# Altium schematic symbol library THD Opto Components.SchLib: 22 symbols
Pins are listed as number, name and electrical type; pins without a type are passive.

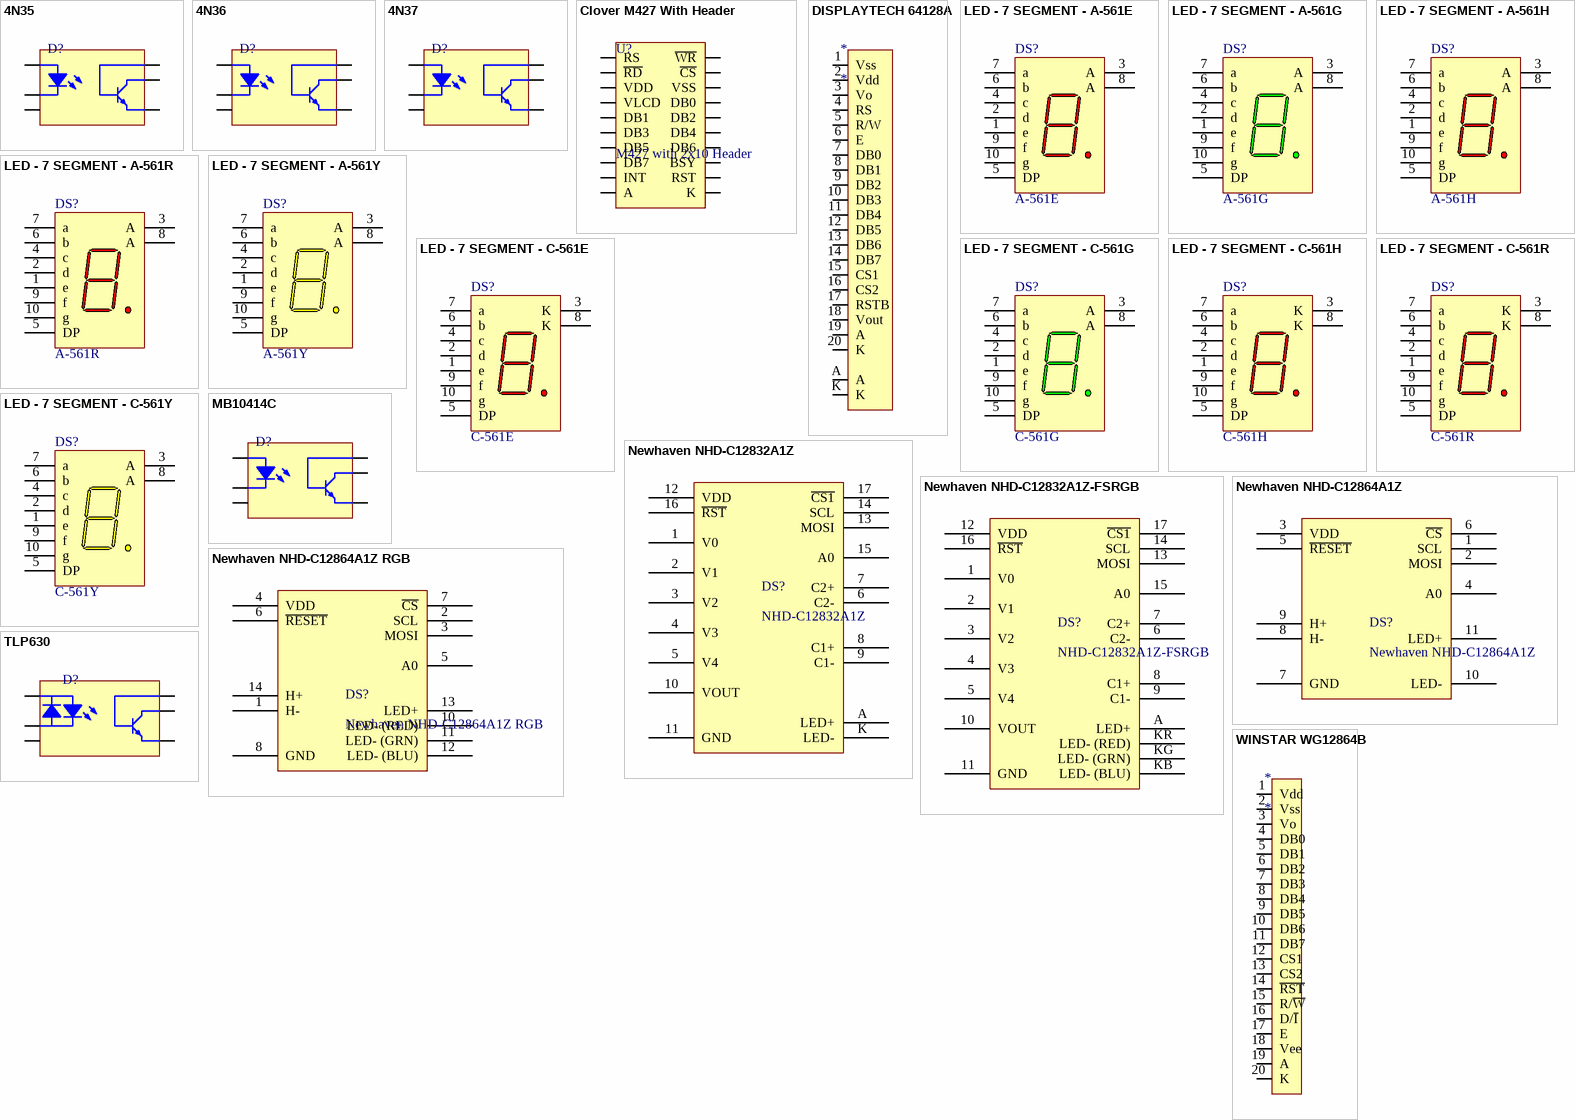
[diagram p0: symbols 4N35 to WINSTAR WG12864B]

## 4N35
designator D?
NPN Transistor Output
footprint DIP6-300 (DIP; 8 Leads; Row Spacing 7.62 mm; Pitch 2.54 mm)
pins: 1, 2, 3, 4, 5, 6 5

## 4N36
designator D?
NPN Transistor Output
footprint DIP6-300 (DIP; 8 Leads; Row Spacing 7.62 mm; Pitch 2.54 mm)
pins: 1, 2, 3, 4, 5, 6 5

## 4N37
designator D?
NPN Transistor Output
footprint DIP6-300 (DIP; 8 Leads; Row Spacing 7.62 mm; Pitch 2.54 mm)
pins: 1, 2, 3, 4, 5, 6 5

## Clover M427 With Header
designator U?, comment M427 with 2x10 Header
M427 with Header (2x10P Molex 1591-1208 or 1591-6207), 160x160 Dots LCD Module, Clover Display Ltd.
footprint CLOVER M427 (M427 with Header (2x10P), 160x160 Dots LCD Module, Clover Display Ltd.)
pins: 1 RS, 2 ~{WR}, 3 ~{RD}, 4 ~{CS}, 5 VDD, 6 VSS, 7 VLCD, 8 DB0, 9 DB1, 10 DB2, 11 DB3, 12 DB4, 13 DB5, 14 DB6, 15 DB7, 16 BSY, 17 INT, 18 RST, 19 A, 20 K

## DISPLAYTECH 64128A
designator *
footprint DISPLAYTECH 68128A - BLUE
footprint DISPLAYTECH 68128A - GREEN
footprint DISPLAYTECH 68128A - RED
footprint DISPLAYTECH 68128A - WHITE
footprint DISPLAYTECH 68128A WITH HEADER - BLUE
footprint DISPLAYTECH 68128A WITH HEADER - GREEN
footprint DISPLAYTECH 68128A WITH HEADER - RED
footprint DISPLAYTECH 68128A WITH HEADER - WHITE
pins: 1 Vss, 2 Vdd, 3 Vo, 4 RS, 5 R/W, 6 E, 7 DB0, 8 DB1, 9 DB2, 10 DB3, 11 DB4, 12 DB5, 13 DB6, 14 DB7, 15 CS1, 16 CS2, 17 RSTB, 18 Vout, 19 A, 20 K, A, K

## LED - 7 SEGMENT - A-561E
designator DS?, comment A-561E
14.22 mm RED, CA, Low Current High efficient 7-Segment Display; Para Ligth; LuminousIntensity: 200 ucd (Minimum).; LED_Colour: High Efficiency Red (HER); Note: Pins 3 and 8 are redundant Anodes.; Published: 26-May-2004; LatestRevisionDate: 11-Oct-2004; LatestRevisionNote: Display outline superimposed on PCB Footprint.; DatasheetDocument: 11-Mar-2003; PackageDocument: 24-Sep-2002; PackageReference: H-10; Publisher: Altium Limited; ComponentLink1Description: Manufacturer Link; ComponentLink1URL: http://www.agilent.com/; ComponentLink2Description: Datasheet; ComponentLink2URL: http://cp.literature.agilent.com/litweb/pdf/5989-2824EN.pdf
footprint H-10 RED 7SEGMENT (LED, 7-Segment Display, 14.22 mm, RHD; 10 Leads; Row Space 15.24 mm; Pitch 2.54 mm)
pins: 1 e "Cathode", 2 d "Cathode", 3 A "Anode", 4 c "Cathode", 5 DP "Cathode", 6 b "Cathode", 7 a "Cathode", 8 A "Anode", 9 f "Cathode", 10 g "Cathode"

## LED - 7 SEGMENT - A-561G
designator DS?, comment A-561G
14.22 mm GREEN, CA, Low Current High efficient 7-Segment Display; Para Ligth; LuminousIntensity: 200 ucd (Minimum).; LED_Colour: High Efficiency Red (HER); Note: Pins 3 and 8 are redundant Anodes.; Published: 26-May-2004; LatestRevisionDate: 11-Oct-2004; LatestRevisionNote: Display outline superimposed on PCB Footprint.; DatasheetDocument: 11-Mar-2003; PackageDocument: 24-Sep-2002; PackageReference: H-10; Publisher: Altium Limited; ComponentLink1Description: Manufacturer Link; ComponentLink1URL: http://www.agilent.com/; ComponentLink2Description: Datasheet; ComponentLink2URL: http://cp.literature.agilent.com/litweb/pdf/5989-2824EN.pdf
footprint H-10 GREEN 7SEGMENT (LED, 7-Segment Display, 14.22 mm, RHD; 10 Leads; Row Space 15.24 mm; Pitch 2.54 mm)
pins: 1 e "Cathode", 2 d "Cathode", 3 A "Anode", 4 c "Cathode", 5 DP "Cathode", 6 b "Cathode", 7 a "Cathode", 8 A "Anode", 9 f "Cathode", 10 g "Cathode"

## LED - 7 SEGMENT - A-561H
designator DS?, comment A-561H
14.22 mm BRIGHT RED, CA, Low Current 7-Segment Display; Para Ligth; LuminousIntensity: 200 ucd (Minimum).; LED_Colour: High Efficiency Red (HER); Note: Pins 3 and 8 are redundant Anodes.; Published: 26-May-2004; LatestRevisionDate: 11-Oct-2004; LatestRevisionNote: Display outline superimposed on PCB Footprint.; DatasheetDocument: 11-Mar-2003; PackageDocument: 24-Sep-2002; PackageReference: H-10; Publisher: Altium Limited; ComponentLink1Description: Manufacturer Link; ComponentLink1URL: http://www.agilent.com/; ComponentLink2Description: Datasheet; ComponentLink2URL: http://cp.literature.agilent.com/litweb/pdf/5989-2824EN.pdf
footprint H-10 RED 7SEGMENT (LED, 7-Segment Display, 14.22 mm, RHD; 10 Leads; Row Space 15.24 mm; Pitch 2.54 mm)
pins: 1 e "Cathode", 2 d "Cathode", 3 A "Anode", 4 c "Cathode", 5 DP "Cathode", 6 b "Cathode", 7 a "Cathode", 8 A "Anode", 9 f "Cathode", 10 g "Cathode"

## LED - 7 SEGMENT - A-561R
designator DS?, comment A-561R
14.22 mm RED, CA, Low Current 7-Segment Display; Para Ligth; LuminousIntensity: 200 ucd (Minimum).; LED_Colour: High Efficiency Red (HER); Note: Pins 3 and 8 are redundant Anodes.; Published: 26-May-2004; LatestRevisionDate: 11-Oct-2004; LatestRevisionNote: Display outline superimposed on PCB Footprint.; DatasheetDocument: 11-Mar-2003; PackageDocument: 24-Sep-2002; PackageReference: H-10; Publisher: Altium Limited; ComponentLink1Description: Manufacturer Link; ComponentLink1URL: http://www.agilent.com/; ComponentLink2Description: Datasheet; ComponentLink2URL: http://cp.literature.agilent.com/litweb/pdf/5989-2824EN.pdf
footprint H-10 RED 7SEGMENT (LED, 7-Segment Display, 14.22 mm, RHD; 10 Leads; Row Space 15.24 mm; Pitch 2.54 mm)
pins: 1 e "Cathode", 2 d "Cathode", 3 A "Anode", 4 c "Cathode", 5 DP "Cathode", 6 b "Cathode", 7 a "Cathode", 8 A "Anode", 9 f "Cathode", 10 g "Cathode"

## LED - 7 SEGMENT - A-561Y
designator DS?, comment A-561Y
14.22 mm YELLOW, CA, Low Current High efficient 7-Segment Display; Para Ligth; LuminousIntensity: 200 ucd (Minimum).; LED_Colour: High Efficiency Red (HER); Note: Pins 3 and 8 are redundant Anodes.; Published: 26-May-2004; LatestRevisionDate: 11-Oct-2004; LatestRevisionNote: Display outline superimposed on PCB Footprint.; DatasheetDocument: 11-Mar-2003; PackageDocument: 24-Sep-2002; PackageReference: H-10; Publisher: Altium Limited; ComponentLink1Description: Manufacturer Link; ComponentLink1URL: http://www.agilent.com/; ComponentLink2Description: Datasheet; ComponentLink2URL: http://cp.literature.agilent.com/litweb/pdf/5989-2824EN.pdf
footprint H-10 YELLOW 7SEGMENT (LED, 7-Segment Display, 14.22 mm, RHD; 10 Leads; Row Space 15.24 mm; Pitch 2.54 mm)
pins: 1 e "Cathode", 2 d "Cathode", 3 A "Anode", 4 c "Cathode", 5 DP "Cathode", 6 b "Cathode", 7 a "Cathode", 8 A "Anode", 9 f "Cathode", 10 g "Cathode"

## LED - 7 SEGMENT - C-561E
designator DS?, comment C-561E
14.22 mm RED, CC, Low Current High Efficient 7-Segment Display; Para Ligth; LuminousIntensity: 200 ucd (Minimum).; LED_Colour: High Efficiency Red (HER); Note: Pins 3 and 8 are redundant Cathodes.; Published: 26-May-2004; LatestRevisionDate: 11-Oct-2004; LatestRevisionNote: Display outline superimposed on PCB Footprint.; DatasheetDocument: 11-Mar-2003; PackageDocument: 24-Sep-2002; PackageReference: H-10; Publisher: Altium Limited; ComponentLink1Description: Manufacturer Link; ComponentLink1URL: http://www.agilent.com/; ComponentLink2Description: Datasheet; ComponentLink2URL: http://cp.literature.agilent.com/litweb/pdf/5989-2824EN.pdf
footprint H-10 RED 7SEGMENT (LED, 7-Segment Display, 14.22 mm, RHD; 10 Leads; Row Space 15.24 mm; Pitch 2.54 mm)
pins: 1 e "Anode", 2 d "Anode", 3 K "Cathode", 4 c "Anode", 5 DP "Anode", 6 b "Anode", 7 a "Anode", 8 K "Cathode", 9 f "Anode", 10 g "Anode"

## LED - 7 SEGMENT - C-561G
designator DS?, comment C-561G
14.22 mm GREEN, CC, Low Current High efficient 7-Segment Display; Para Ligth; LuminousIntensity: 200 ucd (Minimum).; LED_Colour: High Efficiency Red (HER); Note: Pins 3 and 8 are redundant Anodes.; Published: 26-May-2004; LatestRevisionDate: 11-Oct-2004; LatestRevisionNote: Display outline superimposed on PCB Footprint.; DatasheetDocument: 11-Mar-2003; PackageDocument: 24-Sep-2002; PackageReference: H-10; Publisher: Altium Limited; ComponentLink1Description: Manufacturer Link; ComponentLink1URL: http://www.agilent.com/; ComponentLink2Description: Datasheet; ComponentLink2URL: http://cp.literature.agilent.com/litweb/pdf/5989-2824EN.pdf
footprint H-10 GREEN 7SEGMENT (LED, 7-Segment Display, 14.22 mm, RHD; 10 Leads; Row Space 15.24 mm; Pitch 2.54 mm)
pins: 1 e "Cathode", 2 d "Cathode", 3 A "Anode", 4 c "Cathode", 5 DP "Cathode", 6 b "Cathode", 7 a "Cathode", 8 A "Anode", 9 f "Cathode", 10 g "Cathode"

## LED - 7 SEGMENT - C-561H
designator DS?, comment C-561H
14.22 mm BRIGHT RED, CC, Low Current 7-Segment Display; Para Ligth; LuminousIntensity: 200 ucd (Minimum).; LED_Colour: High Efficiency Red (HER); Note: Pins 3 and 8 are redundant Cathodes.; Published: 26-May-2004; LatestRevisionDate: 11-Oct-2004; LatestRevisionNote: Display outline superimposed on PCB Footprint.; DatasheetDocument: 11-Mar-2003; PackageDocument: 24-Sep-2002; PackageReference: H-10; Publisher: Altium Limited; ComponentLink1Description: Manufacturer Link; ComponentLink1URL: http://www.agilent.com/; ComponentLink2Description: Datasheet; ComponentLink2URL: http://cp.literature.agilent.com/litweb/pdf/5989-2824EN.pdf
footprint H-10 RED 7SEGMENT (LED, 7-Segment Display, 14.22 mm, RHD; 10 Leads; Row Space 15.24 mm; Pitch 2.54 mm)
pins: 1 e "Anode", 2 d "Anode", 3 K "Cathode", 4 c "Anode", 5 DP "Anode", 6 b "Anode", 7 a "Anode", 8 K "Cathode", 9 f "Anode", 10 g "Anode"

## LED - 7 SEGMENT - C-561R
designator DS?, comment C-561R
14.22 mm RED, CC, Low Current 7-Segment Display; Para Ligth; LuminousIntensity: 200 ucd (Minimum).; LED_Colour: High Efficiency Red (HER); Note: Pins 3 and 8 are redundant Cathodes.; Published: 26-May-2004; LatestRevisionDate: 11-Oct-2004; LatestRevisionNote: Display outline superimposed on PCB Footprint.; DatasheetDocument: 11-Mar-2003; PackageDocument: 24-Sep-2002; PackageReference: H-10; Publisher: Altium Limited; ComponentLink1Description: Manufacturer Link; ComponentLink1URL: http://www.agilent.com/; ComponentLink2Description: Datasheet; ComponentLink2URL: http://cp.literature.agilent.com/litweb/pdf/5989-2824EN.pdf
footprint H-10 RED 7SEGMENT (LED, 7-Segment Display, 14.22 mm, RHD; 10 Leads; Row Space 15.24 mm; Pitch 2.54 mm)
pins: 1 e "Anode", 2 d "Anode", 3 K "Cathode", 4 c "Anode", 5 DP "Anode", 6 b "Anode", 7 a "Anode", 8 K "Cathode", 9 f "Anode", 10 g "Anode"

## LED - 7 SEGMENT - C-561Y
designator DS?, comment C-561Y
14.22 mm YELLOW, CC, Low Current High efficient 7-Segment Display; Para Ligth; LuminousIntensity: 200 ucd (Minimum).; LED_Colour: High Efficiency Red (HER); Note: Pins 3 and 8 are redundant Anodes.; Published: 26-May-2004; LatestRevisionDate: 11-Oct-2004; LatestRevisionNote: Display outline superimposed on PCB Footprint.; DatasheetDocument: 11-Mar-2003; PackageDocument: 24-Sep-2002; PackageReference: H-10; Publisher: Altium Limited; ComponentLink1Description: Manufacturer Link; ComponentLink1URL: http://www.agilent.com/; ComponentLink2Description: Datasheet; ComponentLink2URL: http://cp.literature.agilent.com/litweb/pdf/5989-2824EN.pdf
footprint H-10 YELLOW 7SEGMENT (LED, 7-Segment Display, 14.22 mm, RHD; 10 Leads; Row Space 15.24 mm; Pitch 2.54 mm)
pins: 1 e "Cathode", 2 d "Cathode", 3 A "Anode", 4 c "Cathode", 5 DP "Cathode", 6 b "Cathode", 7 a "Cathode", 8 A "Anode", 9 f "Cathode", 10 g "Cathode"

## MB10414C
designator D?
NPN Transistor Output
footprint DIP6-300 (DIP; 8 Leads; Row Spacing 7.62 mm; Pitch 2.54 mm)
pins: 1, 2, 3, 4, 5, 6 5

## Newhaven NHD-C12832A1Z
designator DS?, comment NHD-C12832A1Z
COG (Chip-On-Glass) Liquid Crystal Display Module
footprint NHD-C12832A1Z BLUE
footprint NHD-C12832A1Z GREEN
footprint NHD-C12832A1Z RED
footprint NHD-C12832A1Z WHITE
pins: 1 V0, 2 V1, 3 V2, 4 V3, 5 V4, 6 C2-, 7 C2+, 8 C1+, 9 C1-, 10 VOUT, 11 GND, 12 VDD, 13 MOSI, 14 SCL, 15 A0, 16 ~{RST}, 17 ~{CS1}, A LED+, K LED-

## Newhaven NHD-C12832A1Z-FSRGB
designator DS?, comment NHD-C12832A1Z-FSRGB
COG (Chip-On-Glass) Liquid Crystal Display Module
footprint NHD-C12832A1Z-FS(RGB)-FBW
pins: 1 V0, 2 V1, 3 V2, 4 V3, 5 V4, 6 C2-, 7 C2+, 8 C1+, 9 C1-, 10 VOUT, 11 GND, 12 VDD, 13 MOSI, 14 SCL, 15 A0, 16 ~{RST}, 17 ~{CS1}, A LED+, KB LED- (BLU), KG LED- (GRN), KR LED- (RED)

## Newhaven NHD-C12864A1Z
designator DS?
COG (Chip-On-Glass) Liquid Crystal Display Module
footprint NHD-C12864A1Z BLUE
footprint NHD-C12864A1Z GREEN
footprint NHD-C12864A1Z RED
footprint NHD-C12864A1Z WHITE
pins: 1 SCL, 2 MOSI, 3 VDD, 4 A0, 5 ~{RESET}, 6 ~{CS}, 7 GND, 8 H-, 9 H+, 10 LED-, 11 LED+

## Newhaven NHD-C12864A1Z RGB
designator DS?
COG (Chip-On-Glass) Liquid Crystal Display Module
footprint NHD-C12864A1Z RGB
pins: 1 H-, 2 SCL, 3 MOSI, 4 VDD, 5 A0, 6 ~{RESET}, 7 ~{CS}, 8 GND, 10 LED- (RED), 11 LED- (GRN), 12 LED- (BLU), 13 LED+, 14 H+

## TLP630
designator D?
NPN Transistor Output
footprint DIP6-300-WHITE (DIP; 8 Leads; Row Spacing 7.62 mm; Pitch 2.54 mm)
pins: 1, 2, 3, 4, 5, 6 5

## WINSTAR WG12864B
designator *
footprint WINSTAR WG12864B - BLUE
footprint WINSTAR WG12864B - GREEN
footprint WINSTAR WG12864B - RED
footprint WINSTAR WG12864B - WHITE
footprint WINSTAR WG12864B WITH HEADER - BLUE
footprint WINSTAR WG12864B WITH HEADER - GREEN
footprint WINSTAR WG12864B WITH HEADER - RED
footprint WINSTAR WG12864B WITH HEADER - WHITE
pins: 1 Vdd, 2 Vss, 3 Vo, 4 DB0, 5 DB1, 6 DB2, 7 DB3, 8 DB4, 9 DB5, 10 DB6, 11 DB7, 12 CS1, 13 CS2, 14 ~{RST}, 15 R/~{W}, 16 D/~{I}, 17 E, 18 Vee, 19 A, 20 K